# Altium schematic symbol library SN74HC153.SchLib: 1 symbol
Pins are listed as number, name and electrical type; pins without a type are passive.

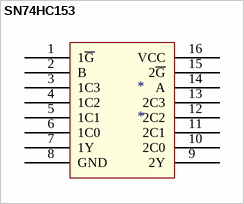
[diagram p0: symbol SN74HC153]

## SN74HC153
designator *
pins: 1 1~{G}, 2 B, 3 1C3, 4 1C2, 5 1C1, 6 1C0, 7 1Y, 8 GND (power), 9 2Y, 10 2C0, 11 2C1, 12 2C2, 13 2C3, 14 A, 15 2~{G}, 16 VCC (power)